# EAGLE library part TL2575-33IN (library baja)
1-A SIMPLE STEP-DOWN SWITCHING VOLTAGE REGULATORS
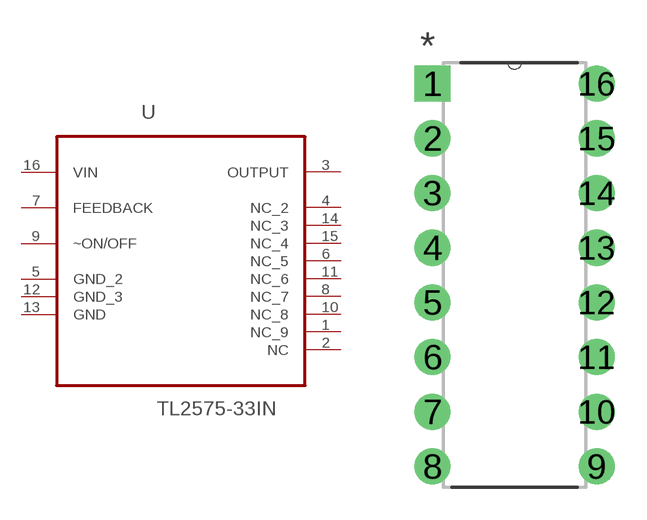
[diagram p2: symbol with the pads of DIP254P762X508-16; footprint DIP254P762X508-16]

Designator prefix U

## TL2575-33IN (MPN: TL2575HV-05IN; OC_FARNELL: -; OC_NEWARK: 27M1040; PACKAGE: PDIP-16; SUPPLIER: Texas Instruments)  [DIP254P762X508-16]
1  NC_9  nc
2  NC  nc
3  OUTPUT  out
4  NC_2  nc
5  GND_2  pas
6  NC_5  nc
7  FEEDBACK
8  NC_7  nc
9  ~ON/OFF  in
10  NC_8  nc
11  NC_6  nc
12  GND_3  pas
13  GND  pas
14  NC_3  nc
15  NC_4  nc
16  VIN  pwr

## Footprint DIP254P762X508-16 (pad centres in mm)
drill 1.118 square: 1 -7.62,17.78
drill 1.118: 2 -7.62,15.24; 3 -7.62,12.7; 4 -7.62,10.16; 5 -7.62,7.62; 6 -7.62,5.08; 7 -7.62,2.54; 8 -7.62,0; 9 0,0; 10 0,2.54; 11 0,5.08; 12 0,7.62; 13 0,10.16; 14 0,12.7; 15 0,15.24; 16 0,17.78